# Altium schematic symbol library ITR9608.SchLib: 1 symbol
Pins are listed as number, name and electrical type; pins without a type are passive.

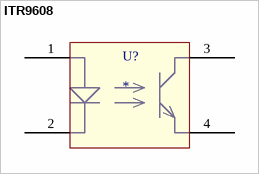
[diagram p0: symbol ITR9608]

## ITR9608
designator U?
Intersection sensor
footprint ITR9608 footprint
pins: 1 Ld Anode, 2 Ld Cathode, 3 Tr Collector, 4 Tr Emitter